# Altium footprint library GlecerLib.PcbLib: 39 footprints (part 3 of 3)
Each footprint in its own frame and in the unit in brackets; x right, y up, seen from the top. Pads: shape width x height; smd on the part's side, far side on the other; paste and mask are expansions set on the pad; w line width, h text height; cw(c..) or ccw(c..) is an arc to the next point about the centre after c.
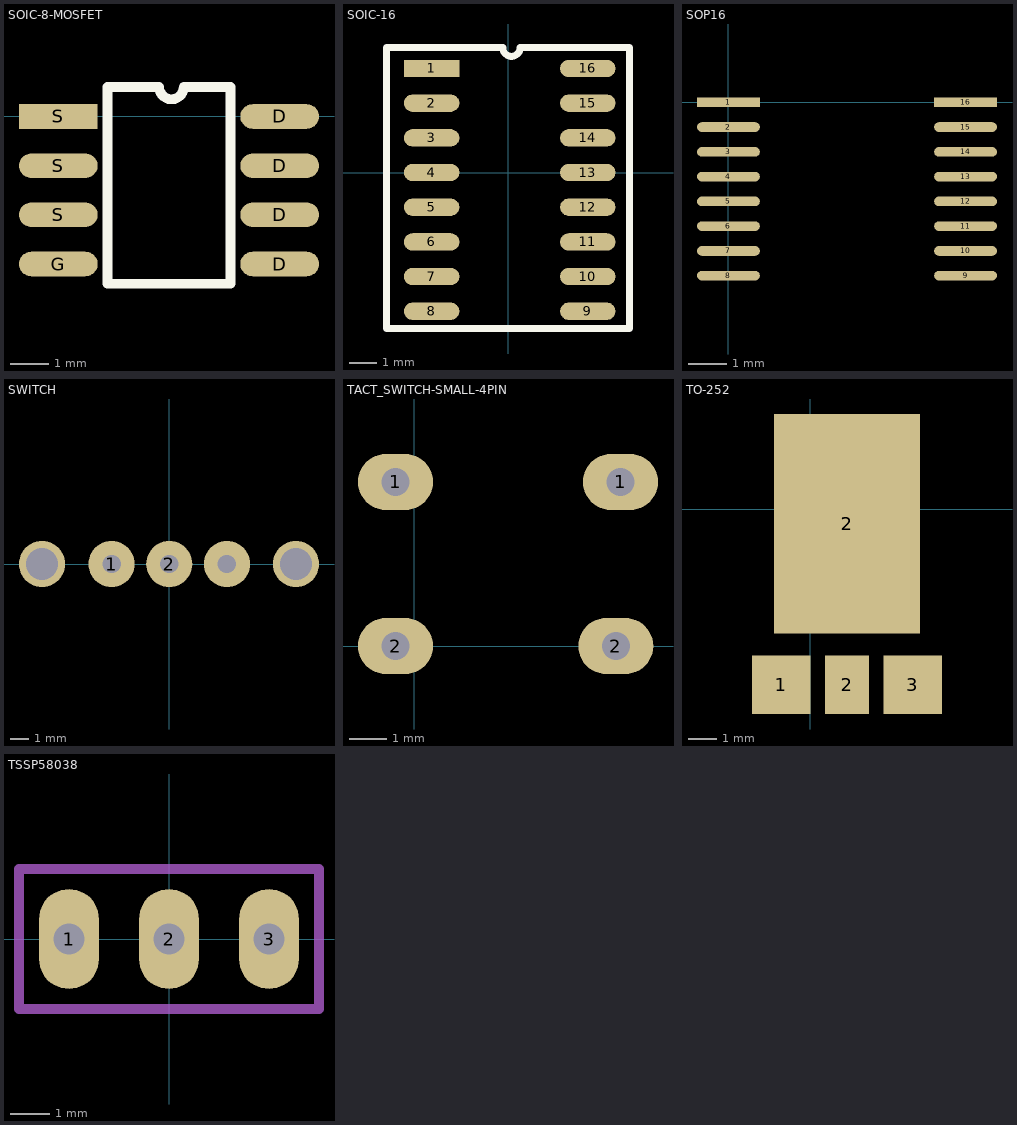
[diagram p2: the footprints below, top view; thin cyan lines are the x and y axes]

## SOIC-8-MOSFET [mil]
pads (8):
  oval 80x25 smd: D(440,-150) D(440,-100) D(440,-50) D(440,0) G(215,-150) S(215,-100) S(215,-50)
  rect 80x25 smd: S(215,0)
Top Overlay:
  lines w10: 265,-170 265,30 317.5,30 ccw(c330,30) 342.5,30 390,30 390,-170 265,-170
3D body "User Library-SOIC-8-1.step": height 68.9, standoff 0, extent 211.9,-171.46 448.12,21.46

## SOIC-16 [mil]
pads (16):
  rect 80x25 smd: 1(-110,150)
  oval 80x25 smd: 2(-110,100) 3(-110,50) 4(-110,0) 5(-110,-50) 6(-110,-100) 7(-110,-150) 8(-110,-200) 9(115,-200) 10(115,-150) 11(115,-100) 12(115,-50) 13(115,0) 14(115,50) 15(115,100) 16(115,150)
Top Overlay:
  lines w10: -175,-225 -175,180 -7.5,180 ccw(c5,180) 17.5,180 175,180 175,-225 -175,-225
3D body "User Library-IPC SO (1).step": height 74.8, standoff 0, extent -119.2,-221.85 119.21,171.85

## SOP16 [mil]
pads (16):
  rect 65x10 smd: 1(0,0) 16(245,0)
  oval 65x10 smd: 2(0,-25.59) 3(0,-51.18) 4(0,-76.77) 5(0,-102.36) 6(0,-127.95) 7(0,-153.54) 8(0,-179.13) 9(245,-179.13) 10(245,-153.54) 11(245,-127.95) 12(245,-102.36) 13(245,-76.77) 14(245,-51.18) 15(245,-25.59)
3D body "User Library-TSSOP-16-1.step": height 43.31, standoff 0, extent -5.98,-188.42 245.99,8.43

## SWITCH [mil]
pads (5):
  round 100 hole 40: 1(-125,0) 2(0,0) ""(125,0)
  round 100 hole 70: ""(-275.58,0.01) ""(274.42,0.01)
3D body "User Library-SLB12814.STEP": height 379.92, standoff -102.36, extent -275.58,-122.04 275.6,122.05

## TACT_SWITCH-SMALL-4PIN [mil]
pads (4):
  oval 80x60 hole 30: 1(-20,175) 1(220,175) 2(-20,0) 2(215,0)
3D body "User Library-TPxxxx (Switch).STEP": height 202.91, standoff -131.39, extent -57.05,-31.22 257.05,205

## TO-252 [mil]
pads (4):
  rect 80x80 smd: 1(-40,-240) 3(140,-240)
  rect 200x300 smd: 2(50,-20)
  rect 60x80 smd: 2(50,-240)
3D body "User Library-DPAK-1.step": height 94.98, standoff -0.1, extent -78.74,-248.77 178.74,142.5

## TSSP58038 [mil]
pads (3):
  oval 60x100 hole 31.5: 1(-100,0) 2(0,0) 3(100,0)
Mechanical 1:
  lines w10: -150,-70 150,-70 150,70 -150,70 -150,-70